# Altium footprint library Connectors.PcbLib: 33 footprints (part 2 of 3)
Each footprint in its own frame and in the unit in brackets; x right, y up, seen from the top. Pads: shape width x height; smd on the part's side, far side on the other; paste and mask are expansions set on the pad; w line width, h text height; cw(c..) or ccw(c..) is an arc to the next point about the centre after c.
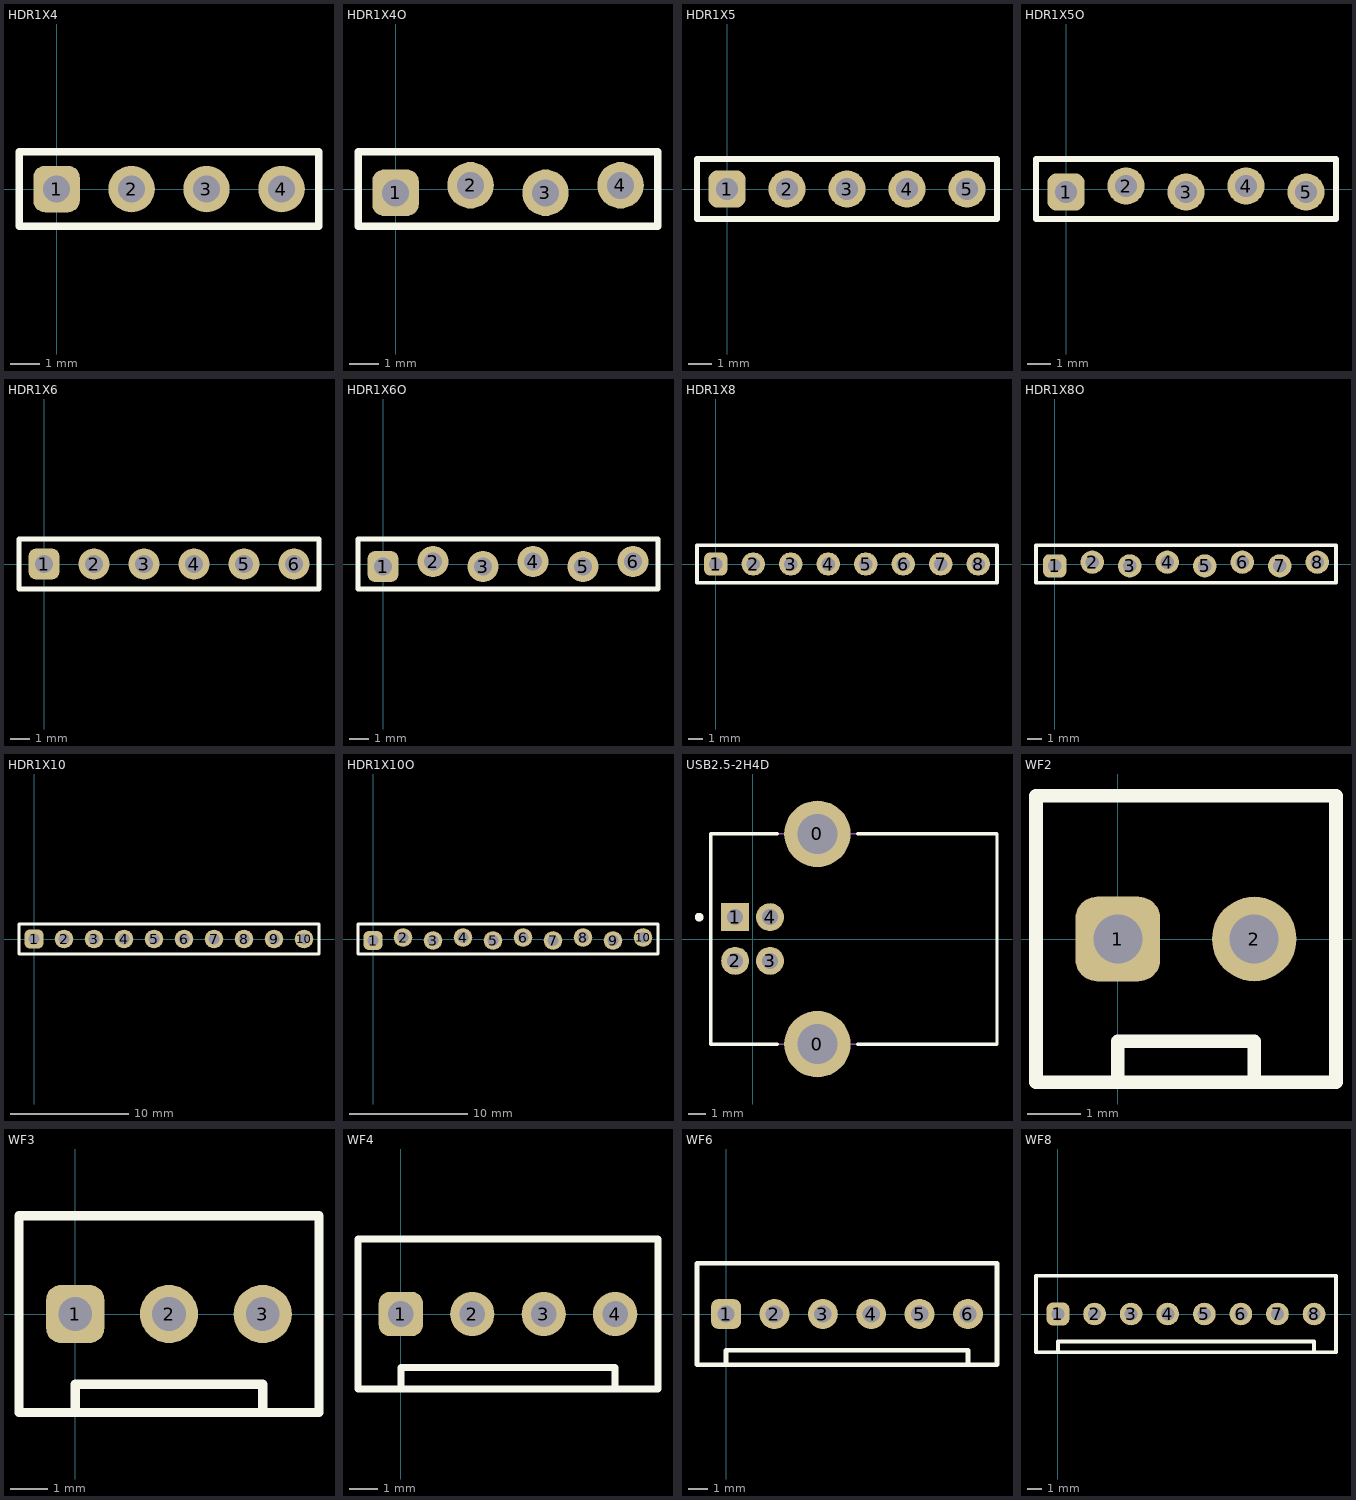
[diagram p1: the footprints below, top view; thin cyan lines are the x and y axes]

## HDR1X4 [mil] "Header; 4 Position"
height 440.94
pads (4):
  rrect50% 62x62 hole 36: 1(0,0)
  round 62 hole 36: 2(100,0) 3(200,0) 4(300,0)
Top Overlay:
  lines w10: -50,-50 -50,50 350,50 350,-50 -50,-50

## HDR1X4O [mil] "Header; 4 Position"
height 440.94
pads (4):
  rrect50% 62x62 hole 36: 1(0,-5)
  round 62 hole 36: 2(100,5) 3(200,-5) 4(300,5)
Top Overlay:
  lines w10: -50,-50 350,-50 350,50 -50,50 -50,-50

## HDR1X5 [mil] "Header; 5 Position"
height 440.94
pads (5):
  rrect50% 62x62 hole 36: 1(0,0)
  round 62 hole 36: 2(100,0) 3(200,0) 4(300,0) 5(400,0)
Top Overlay:
  lines w10: -50,-50 450,-50 450,50 -50,50 -50,-50

## HDR1X5O [mil] "Header; 5 Position"
height 440.94
pads (5):
  rrect50% 62x62 hole 36: 1(0,-5)
  round 62 hole 36: 2(100,5) 3(200,-5) 4(300,5) 5(400,-5)
Top Overlay:
  lines w10: -50,-50 -50,50 450,50 450,-50 -50,-50

## HDR1X6 [mil] "Header; 6 Position"
height 440.94
pads (6):
  rrect50% 62x62 hole 36: 1(0,0)
  round 62 hole 36: 2(100,0) 3(200,0) 4(300,0) 5(400,0) 6(500,0)
Top Overlay:
  lines w10: -50,-50 550,-50 550,50 -50,50 -50,-50

## HDR1X6O [mil] "Header; 6 Position"
height 440.94
pads (6):
  rrect50% 62x62 hole 36: 1(0,-5)
  round 62 hole 36: 2(100,5) 3(200,-5) 4(300,5) 5(400,-5) 6(500,5)
Top Overlay:
  lines w10: -50,-50 550,-50 550,50 -50,50 -50,-50

## HDR1X8 [mil] "Header; 8 Position"
height 440.94
pads (8):
  rrect50% 62x62 hole 36: 1(0,0)
  round 62 hole 36: 2(100,0) 3(200,0) 4(300,0) 5(400,0) 6(500,0) 7(600,0) 8(700,0)
Top Overlay:
  lines w10: -50,-50 750,-50 750,50 -50,50 -50,-50

## HDR1X8O [mil] "Header; 8 Position"
height 440.94
pads (8):
  rrect50% 62x62 hole 36: 1(0,-5)
  round 62 hole 36: 2(100,5) 3(200,-5) 4(300,5) 5(400,-5) 6(500,5) 7(600,-5) 8(700,5)
Top Overlay:
  lines w10: -50,-50 750,-50 750,50 -50,50 -50,-50

## HDR1X10 [mil] "Header; 10 Position"
height 440.94
pads (10):
  rrect50% 62x62 hole 36: 1(0,0)
  round 62 hole 36: 2(100,0) 3(200,0) 4(300,0) 5(400,0) 6(500,0) 7(600,0) 8(700,0) 9(800,0) 10(900,0)
Top Overlay:
  lines w10: -50,-50 950,-50 950,50 -50,50 -50,-50

## HDR1X10O [mil] "Header; 10 Position"
height 440.94
pads (10):
  rrect50% 62x62 hole 36: 1(0,-5)
  round 62 hole 36: 2(100,5) 3(200,-5) 4(300,5) 5(400,-5) 6(500,5) 7(600,-5) 8(700,5) 9(800,-5) 10(900,5)
Top Overlay:
  lines w10: -50,-50 -50,50 950,50 950,-50 -50,-50

## USB2.5-2H4D [mm] "Connector; USB1.1, Type B, Thru-Hole; 4 Position; Right Angle"
height 11.1
pads (6):
  round 3.8 hole 2.3: 0(3.71,-6.02) 0(3.71,6.02)
  rect 1.6x1.6 hole 0.92: 1(-1,1.25)
  round 1.6 hole 0.92: 2(-1,-1.25) 3(1,-1.25) 4(1,1.25)
Top Overlay:
  circle w0.25: c-3.06,1.25 r0.125
  lines w0.2: 1.41,-6.02 -2.41,-6.02 -2.41,6.02 1.41,6.02 ; 6.01,-6.02 13.99,-6.02 13.99,6.02 6.01,6.02
Mechanical 13:
  lines w0.1: -2.41,-6.02 13.99,-6.02 13.99,6.02 -2.41,6.02 -2.41,-6.02
3D body: height 11.1, standoff 0, extent -2.41,-6.02 13.99,6.02

## WF2 [mil]
height 440.94
pads (2):
  rrect50% 62x62 hole 36: 1(0,0)
  round 62 hole 36: 2(100,0)
Top Overlay:
  lines w10: 0,-100 0,-75 100,-75 100,-100 ; -60,-105 160,-105 160,105 -60,105 -60,-105

## WF3 [mil]
height 440.94
pads (3):
  rrect50% 62x62 hole 36: 1(0,0)
  round 62 hole 36: 2(100,0) 3(200,0)
Top Overlay:
  lines w10: 0,-100 0,-75 200,-75 200,-100 ; -60,-105 260,-105 260,105 -60,105 -60,-105

## WF4 [mil]
height 440.94
pads (4):
  rrect50% 62x62 hole 36: 1(0,0)
  round 62 hole 36: 2(100,0) 3(200,0) 4(300,0)
Top Overlay:
  lines w10: 0,-100 0,-75 300,-75 300,-100 ; -60,-105 -60,105 360,105 360,-105 -60,-105

## WF6 [mil]
height 440.94
pads (6):
  rrect50% 62x62 hole 36: 1(0,0)
  round 62 hole 36: 2(100,0) 3(200,0) 4(300,0) 5(400,0) 6(500,0)
Top Overlay:
  lines w10: 0,-100 0,-75 500,-75 500,-100 ; -60,-105 -60,105 560,105 560,-105 -60,-105

## WF8 [mil]
height 440.94
pads (8):
  rrect50% 62x62 hole 36: 1(0,0)
  round 62 hole 36: 2(100,0) 3(200,0) 4(300,0) 5(400,0) 6(500,0) 7(600,0) 8(700,0)
Top Overlay:
  lines w10: 0,-100 0,-75 700,-75 700,-100 ; -60,-105 760,-105 760,105 -60,105 -60,-105